# Altium footprint library PcbLib_Acura.PcbLib: 154 footprints (part 6 of 10)
Each footprint in its own frame and in the unit in brackets; x right, y up, seen from the top. Pads: shape width x height; smd on the part's side, far side on the other; paste and mask are expansions set on the pad; w line width, h text height; cw(c..) or ccw(c..) is an arc to the next point about the centre after c.
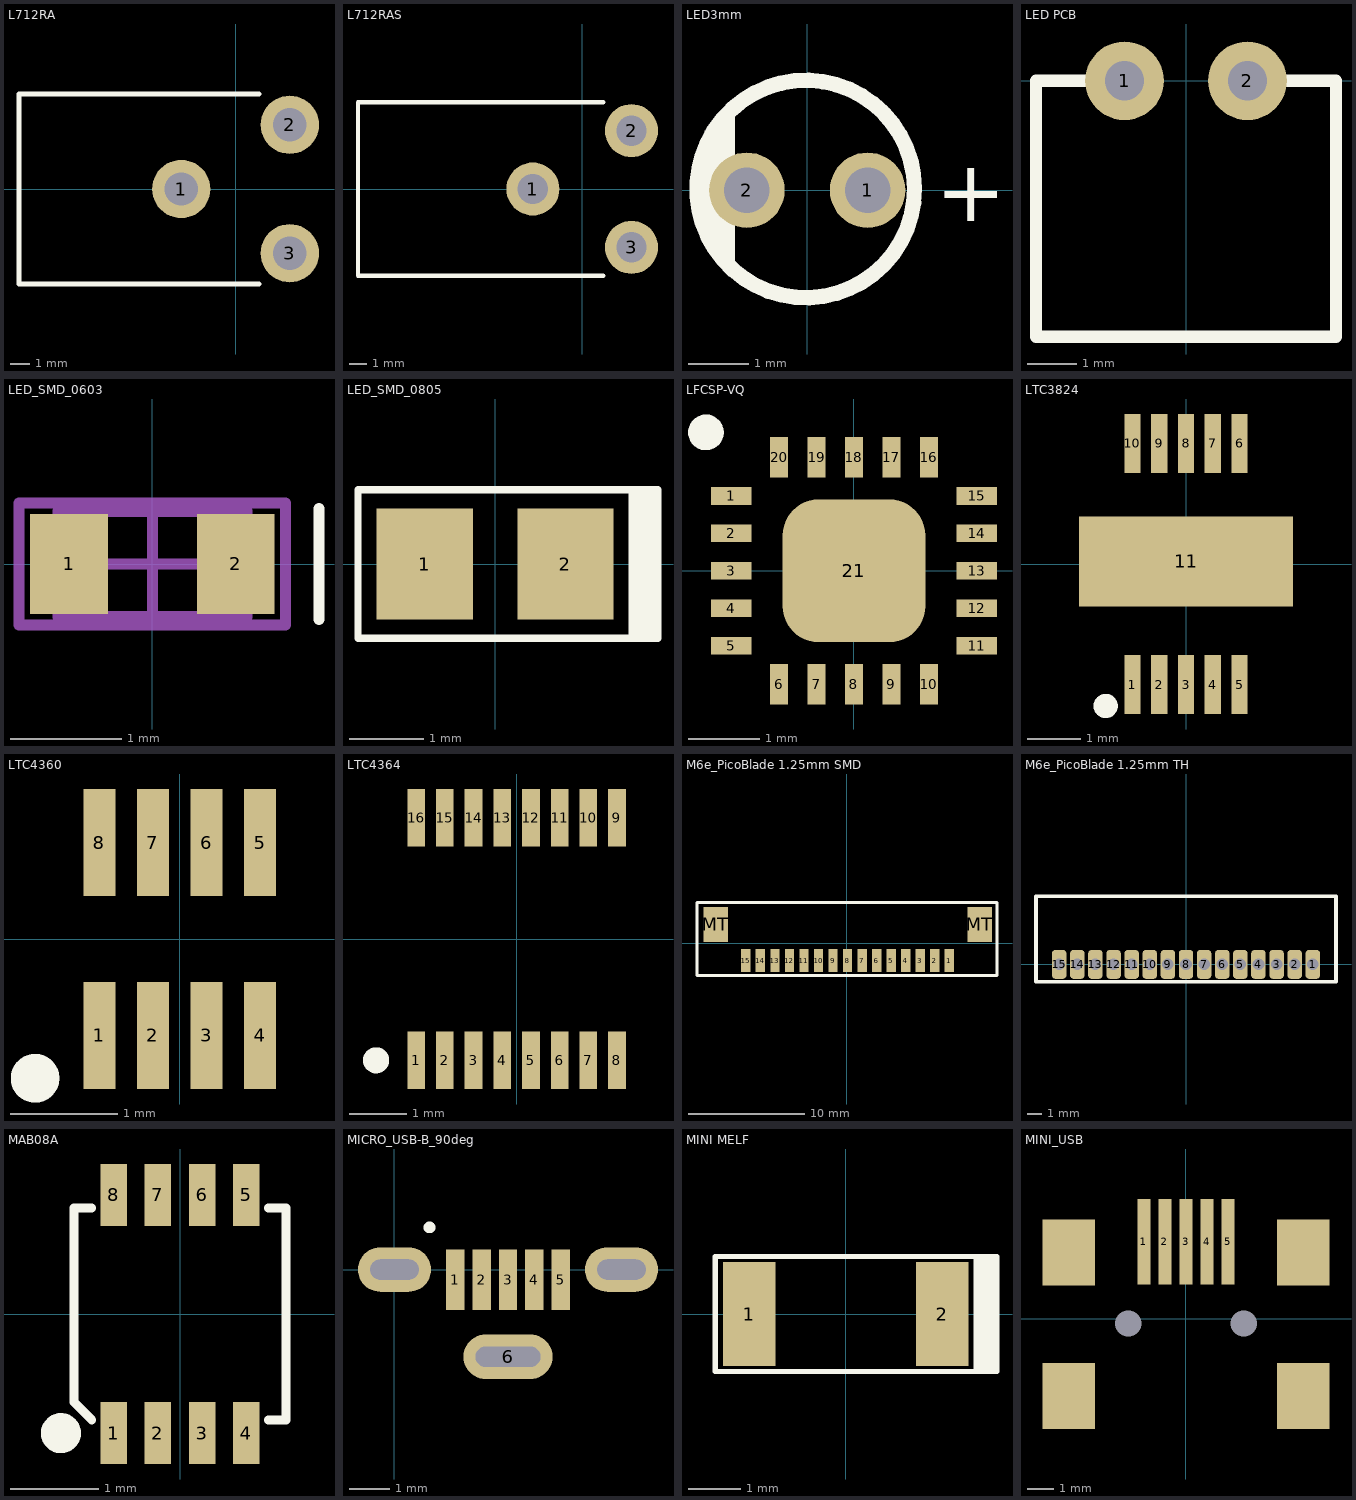
[diagram p5: the footprints below, top view; thin cyan lines are the x and y axes]

## L712RA [mm] "Right Angle DC Locking Power Jacks"
pads (3):
  round 3 hole 1.71: 1(-2.794,0) 2(2.794,3.302) 3(2.794,-3.302)
Top Overlay:
  lines w0.254: 1.206,-4.9 -11.146,-4.9 -11.146,4.9 1.206,4.9

## L712RAS [mm]
pads (3):
  round 3 hole 1.71: 1(-2.794,0) 2(2.794,3.302) 3(2.794,-3.302)
Top Overlay:
  lines w0.254: 1.206,-4.9 -12.694,-4.9 -12.694,4.9 1.206,4.9

## LED3mm [mm]
pads (2):
  round 1.25 hole 0.75: 1(1,0) 2(-1,0)
Top Overlay:
  rectangle: -1.7,-0.87 -1.25,0.99
  rectangle: -1.45,-1.13 -1.25,1.31
  lines w0.1: -1.25,1.31 -1.25,-1.255 -1.225,-1.28
  lines w0.254: 1.775,0.02 cw(c-0.025,0.02) 1.775,0.03
  text "+" at 2.125,-0.51 h1.02

## LED PCB [mm]
pads (2):
  round 1.6 hole 0.8: 1(-1.25,0) 2(1.25,0)
Top Overlay:
  lines w0.254: -1.25,0 -3.05,0 -3.05,-5.2 3.05,-5.2 3.05,0 1.25,0

## LED_SMD_0603 [mm]
pads (2):
  rect 0.7x0.9 smd: 1(-0.75,0) 2(0.75,0)
Top Overlay:
  lines w0.1: 1.5,-0.5 1.5,0.5
Mechanical 13:
  lines w0.1: -0.85,-0.475 -0.85,0.475 0.85,0.475 0.85,-0.475 -0.85,-0.475
Mechanical 15:
  lines w0.1: -0.475,0 0.475,0 ; 0,-0.475 0,0.475 ; -1.2,-0.55 -1.2,0.55 1.2,0.55 1.2,-0.55 -1.2,-0.55
3D body: height 0.9, standoff 0, extent -0.85,-0.475 0.85,0.475

## LED_SMD_0805 [mm]
pads (2):
  rect 1.3x1.5 smd: 1(-0.95,0) 2(0.95,0)
Top Overlay:
  rectangle: 1.85,-1 2.2,1
  lines w0.1: 1.85,-1 -1.85,-1 -1.85,0 -1.85,1 1.85,1 ; 1.85,-1 1.85,1 ; 1.85,-1 2.2,-1 2.2,1 1.85,1

## LFCSP-VQ [mm]
pads (21):
  rect 0.57x0.25 smd: 1(-1.72,1.05) 2(-1.72,0.525) 3(-1.72,0) 4(-1.72,-0.525) 5(-1.72,-1.05) 11(1.72,-1.05) 12(1.72,-0.525) 13(1.72,0) 14(1.72,0.525) 15(1.72,1.05)
  rect 0.25x0.57 smd: 6(-1.05,-1.59) 7(-0.525,-1.59) 8(0,-1.59) 9(0.525,-1.59) 10(1.05,-1.59) 16(1.05,1.59) 17(0.525,1.59) 18(0,1.59) 19(-0.525,1.59) 20(-1.05,1.59)
  rrect50% 2x2 smd: 21(0,0)
Top Overlay:
  circle w0.25: c-2.075,1.94 r0.125

## LTC3824 [mm]
pads (11):
  rect 0.305x1.1 smd: 1(-1,-2.25) 2(-0.5,-2.25) 3(0,-2.25) 4(0.5,-2.25) 5(1,-2.25) 6(1,2.25) 7(0.5,2.25) 8(0,2.25) 9(-0.5,2.25) 10(-1,2.25)
  rect 4x1.68 smd: 11(0,0.05)
Top Overlay:
  circle w0.254: c-1.5,-2.65 r0.1

## LTC4360 [mm] "Overvoltage Protection"
pads (8):
  rect 0.3x1 smd: 1(-0.75,-0.9) 3(0.25,-0.9) 4(0.75,-0.9) 5(0.75,0.9) 6(0.25,0.9) 7(-0.25,0.9) 8(-0.75,0.9)
  rect 0.3x1 smd paste+0: 2(-0.25,-0.9)
Top Overlay:
  circle w0.254: c-1.35,-1.3 r0.1

## LTC4364 [mm] "Surge Stopper"
pads (16):
  rect 0.308x1 smd: 1(-1.75,-2.115) 2(-1.25,-2.115) 3(-0.75,-2.115) 4(-0.25,-2.115) 5(0.25,-2.115) 6(0.75,-2.115) 7(1.25,-2.115) 8(1.75,-2.115) 9(1.75,2.115) 10(1.25,2.115) 11(0.75,2.115) 12(0.25,2.115) 13(-0.25,2.115) 14(-0.75,2.115) 15(-1.25,2.115) 16(-1.75,2.115)
Top Overlay:
  circle w0.254: c-2.45,-2.115 r0.1

## M6e_PicoBlade 1.25mm SMD [mm] "M6e_0532611571_1.25mm Pitch PicoBlade Header, Surface Mount, Right Angle, Lead-Free, 15 Circuits"
height 3.4
pads (17):
  rect 0.8x2 smd: 1(8.801,-1.499) 2(7.551,-1.499) 3(6.301,-1.499) 4(5.051,-1.499) 5(3.801,-1.499) 6(2.551,-1.499) 7(1.301,-1.499) 8(0.051,-1.499) 9(-1.199,-1.499) 10(-2.449,-1.499) 11(-3.699,-1.499) 12(-4.949,-1.499) 13(-6.199,-1.499) 14(-7.449,-1.499) 15(-8.699,-1.499)
  rect 2.1x3 smd: MT(-11.299,1.601) MT(11.401,1.601)
Top Overlay:
  lines w0.254: -12.899,-2.799 9.501,-2.799 12.901,-2.799 12.901,3.501 -12.699,3.501 -12.899,3.501 -12.899,-2.799

## M6e_PicoBlade 1.25mm TH [mm] "M6e_0530481510_1.25mm Pitch PicoBlade Header, Surface Mount, Right Angle, Lead-Free, 15 Circuits"
height 3.4
pads (15):
  rrect50% 1x2 hole 0.8: 1(8.75,0) 2(7.5,0) 3(6.25,0) 4(5,0) 5(3.75,0) 6(2.5,0) 7(1.25,0) 8(0,0) 9(-1.25,0) 10(-2.5,0) 11(-3.75,0) 12(-5,0) 13(-6.25,0) 14(-7.5,0) 15(-8.75,0)
Top Overlay:
  lines w0.254: -10.35,4.6 -10.35,0 -10.35,-1.2 -9.55,-1.2 10.35,-1.2 10.35,4.7 -10.35,4.7

## MAB08A [mm] "FSA3357"
pads (8):
  rect 0.3x0.7 smd: 1(-0.75,-1.35) 2(-0.25,-1.35) 3(0.25,-1.35) 4(0.75,-1.35) 5(0.75,1.35) 6(0.25,1.35) 7(-0.25,1.35) 8(-0.75,1.35)
Top Overlay:
  circle w0.254: c-1.35,-1.35 r0.1
  lines w0.1: -1,-1.2 -1.2,-1 -1.2,1.2 -1,1.2 ; 1,-1.2 1.2,-1.2 1.2,1.2 1,1.2

## MICRO_USB-B_90deg [mm]
pads (8):
  rect 0.45x1.5 smd: 1(1.5,-0.25) 2(2.15,-0.25) 3(2.8,-0.25) 4(3.45,-0.25) 5(4.1,-0.25)
  oval 2.2x1.1 hole 0.5 slot 1.6 at 0 deg: 6(2.8,-2.15)
  oval 1.8x1.1 hole 0.5 slot 1.2 at 0 deg: ""(0,0) ""(5.6,0)
Top Overlay:
  circle w0.254: c0.864,1.041 r0.017

## MINI MELF [mm]
pads (2):
  rect 1x2 smd: 1(-1.85,0) 2(1.85,0)
Top Overlay:
  rectangle: 2.5,-1.1 2.9,1.1
  lines w0.1: 2.5,-1.1 -2.5,-1.1 -2.5,-0.15 -2.5,1.1 2.5,1.1 ; 2.5,-1.1 2.5,1.1 ; 2.5,-1.1 2.9,-1.1 2.9,1.1 2.5,1.1

## MINI_USB [mm] "Mini USB 5 vias"
pads (11):
  rect 0.5x3.25 smd: 1(-1.6,2.925) 2(-0.8,2.925) 3(0,2.925) 4(0.8,2.925) 5(1.6,2.925)
  rect 2x2.5 smd: ""(-4.45,-2.925) ""(-4.45,2.525) ""(4.45,-2.925) ""(4.45,2.525)
  round 0 hole 1: ""(-2.2,-0.175) ""(2.2,-0.175)